# Altium schematic symbol library SCH - POWER - SWITCHMODE - TI LM26480_RTW_24.SchLib: 1 symbol
Pins are listed as number, name and electrical type; pins without a type are passive.

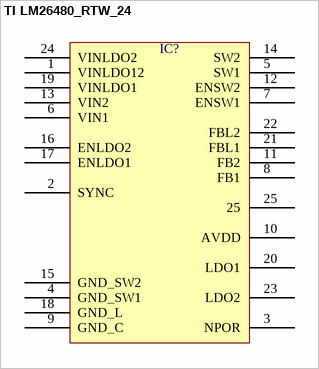
[diagram p0: symbol TI LM26480_RTW_24]

## TI LM26480_RTW_24
designator IC?  (value not drawn)
pins: 1 VINLDO12, 2 SYNC, 3 NPOR, 4 GND_SW1, 5 SW1, 6 VIN1, 7 ENSW1, 8 FB1, 9 GND_C, 10 AVDD, 11 FB2, 12 ENSW2, 13 VIN2, 14 SW2, 15 GND_SW2, 16 ENLDO2, 17 ENLDO1, 18 GND_L, 19 VINLDO1, 20 LDO1, 21 FBL1, 22 FBL2, 23 LDO2, 24 VINLDO2, 25